# Altium schematic symbol library Teensy 3-5 24POS 2ROW SMD.SchLib: 1 symbol
Pins are listed as number, name and electrical type; pins without a type are passive.

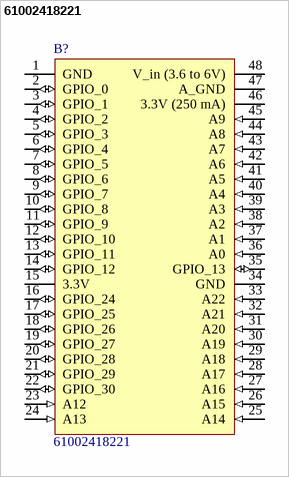
[diagram p0: symbol 61002418221]

## 61002418221
designator B?
Wurth Elektronik WR-PHD Series, Series Number 6100, 2.54mm Pitch 24 Way 1 Row Right Angle PCB Header; Manufacturer_Name: WÃ¼rth Elektronik; Geometry.Height: mm; Supplier_Name: RS; RS Part Number: 1216841; Manufacturer_Part_Number: 61002418221; Allied_Number: *; Other Part Number: *; Datasheet Link: http://katalog.we-online.de/em/datasheet/6100xx18221.pdf; 3D Package: *
footprint 61002418221
pins: 1 GND (power), 2 GPIO_0 (io), 3 GPIO_1 (io), 4 GPIO_2 (io), 5 GPIO_3 (io), 6 GPIO_4 (io), 7 GPIO_5 (io), 8 GPIO_6 (io), 9 GPIO_7 (io), 10 GPIO_8 (io), 11 GPIO_9 (io), 12 GPIO_10 (io), 13 GPIO_11 (io), 14 GPIO_12 (io), 15 3.3V (power), 16 GPIO_24 (io), 17 GPIO_25 (io), 18 GPIO_26 (io), 19 GPIO_27 (io), 20 GPIO_28 (io), 21 GPIO_29 (io), 22 GPIO_30 (io), 23 A12 (in), 24 A13 (in), 25 A14 (in), 26 A15 (in), 27 A16 (in), 28 A17 (in), 29 A18 (in), 30 A19 (in), 31 A20 (in), 32 A21 (in), 33 A22 (in), 34 GND (power), 35 GPIO_13 (io), 36 A0 (in), 37 A1 (in), 38 A2 (in), 39 A3 (in), 40 A4 (in), 41 A5 (in), 42 A6 (in), 43 A7 (in), 44 A8 (in), 45 A9 (in), 46 3.3V (250 mA) (power), 47 A_GND (power), 48 V_in (3.6 to 6V) (power)